# Altium footprint library pedals-enclosures.PCBLIB: 23 footprints (part 2 of 2)
Each footprint in its own frame and in the unit in brackets; x right, y up, seen from the top. Pads: shape width x height; smd on the part's side, far side on the other; paste and mask are expansions set on the pad; w line width, h text height; cw(c..) or ccw(c..) is an arc to the next point about the centre after c.
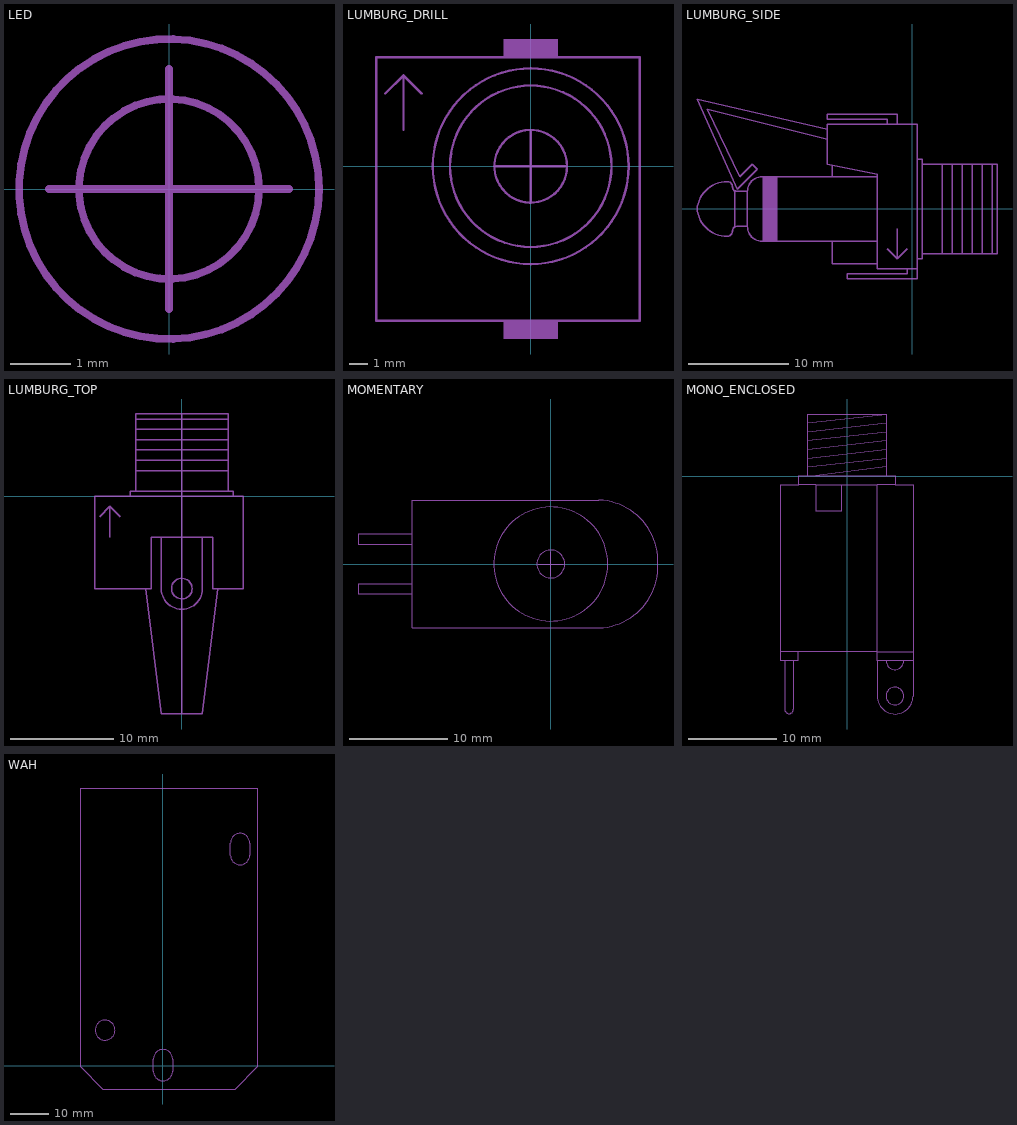
[diagram p1: the footprints below, top view; thin cyan lines are the x and y axes]

## LED [mm]
Mechanical 2:
  circle w0.127: c0,0 r1.5
  circle w0.127: c0,0 r2.5
  lines w0.127: -2,0 2,0 ; 0,-2 0,2

## LUMBURG_DRILL [mm]
Mechanical 2:
  circle w0.127: c0,0 r4.44
  circle w0.127: c0,0 r2
  circle w0.127: c0,0 r5.385
  rectangle: -1.5,6 1.5,7
  rectangle: -1.5,-9.5 1.5,-8.5
  lines w0.127: -8,4 -7,5 ; -7,2 -7,5 ; -6,4 -7,5 ; -2,0 2,0 ; 0,-2 0,2 ; -8.5,-8.5 6,-8.5 6,6 -8.5,6 -8.5,-8.5
Mechanical 3:
  circle w0.127: c0,0 r4.44
  circle w0.127: c0,0 r2
  circle w0.127: c0,0 r5.385
  rectangle: -1.5,6 1.5,7
  rectangle: -1.5,-9.5 1.5,-8.5
  lines w0.127: -8,4 -7,5 ; -7,2 -7,5 ; -6,4 -7,5 ; -2,0 2,0 ; 0,-2 0,2 ; -8.5,-8.5 6,-8.5 6,6 -8.5,6 -8.5,-8.5

## LUMBURG_SIDE [mm]
Mechanical 2:
  rectangle: -15,-3.25 -13.5,3.25
  lines w0.127: -17.75,-1.75 -17.75,1.75 ; -2.5,-4 -1.5,-5 ; -1.5,-2 -1.5,-5 ; -1.5,8.5 -1.5,9.5 -8.5,9.5 -8.5,9 -2.5,9 -2.5,8.5 ; -0.5,-4 -1.5,-5 ; -16.5,-1.75 ccw(c-15,-1.75) -15,-3.25 -8,-3.25 ; -16.5,-1.75 -17.5,-1.75 ccw(c-17.5,-2.25) -18,-2.25 cw(c-18.5,-2.25) -18.5,-2.75 cw(c-18.5,0.3) -21.5,-0.25 cw(c-20.137,0) -21.5,0.25 cw(c-18.5,-0.3) -18.5,2.75 cw(c-18.5,2.25) -18,2.25 ccw(c-17.5,2.25) -17.5,1.75 -16.5,1.75 ; -16.5,-1.75 -16.5,1.75 ; -16.5,1.75 cw(c-15,1.75) -15,3.25 -8,3.25 ; -8.5,7 -8.5,4.5 -8,4.4 ; -8.5,7 -8.5,8 ; -8.5,7 -20.5,10 -17.25,3.25 -16,4.5 -15.5,4 -17.5,2 -21.5,11 -8.5,8 ; -8.5,8 -8.5,8.5 -2.5,8.5 ; -8,-3.25 -3.5,-3.25 ; -8,-3.25 -8,-5.5 -3.5,-5.5 ; -8,3.25 -3.5,3.25 ; -8,3.25 -8,4.4 ; -8,4.4 -3.5,3.5 -3.5,3.25 ; -3.5,-5.5 -3.5,-6 -0.5,-6 ; -3.5,-5.5 -3.5,-3.25 ; -3.5,-3.25 -3.5,3.25 ; -2.5,8.5 0.5,8.5 0.5,5 ; -0.5,-6 0.5,-6 ; -0.5,-6 -0.5,-6.5 -6.5,-6.5 -6.5,-7 0.5,-7 0.5,-6 ; 0.5,-6 0.5,-5 ; 0.5,-5 0.5,5 ; 0.5,-5 1,-5 1,-4.5 ; 0.5,5 1,5 1,4.5 ; 1,-4.5 1,4.5 ; 1,-4.5 3,-4.5 ; 1,4.5 3,4.5 ; 3,-4.5 4,-4.5 ; 3,-4.5 3,4.5 ; 3,4.5 4,4.5 ; 4,-4.5 5,-4.5 ; 4,-4.5 4,4.5 ; 4,4.5 5,4.5 ; 5,-4.5 6,-4.5 ; 5,-4.5 5,4.5 ; 5,4.5 6,4.5 ; 6,-4.5 7,-4.5 ; 6,-4.5 6,4.5 ; 6,4.5 7,4.5 ; 7,-4.5 8,-4.5 ; 7,-4.5 7,4.5 ; 7,4.5 8,4.5 ; 8,-4.5 8.5,-4.5 8.5,4.5 8,4.5 ; 8,-4.5 8,4.5
Mechanical 3:
  rectangle: -15,-3.25 -13.5,3.25
  lines w0.127: -17.75,-1.75 -17.75,1.75 ; -2.5,-4 -1.5,-5 ; -1.5,-2 -1.5,-5 ; -1.5,8.5 -1.5,9.5 -8.5,9.5 -8.5,9 -2.5,9 -2.5,8.5 ; -0.5,-4 -1.5,-5 ; -16.5,-1.75 ccw(c-15,-1.75) -15,-3.25 -8,-3.25 ; -16.5,-1.75 -17.5,-1.75 ccw(c-17.5,-2.25) -18,-2.25 cw(c-18.5,-2.25) -18.5,-2.75 cw(c-18.5,0.3) -21.5,-0.25 cw(c-20.137,0) -21.5,0.25 cw(c-18.5,-0.3) -18.5,2.75 cw(c-18.5,2.25) -18,2.25 ccw(c-17.5,2.25) -17.5,1.75 -16.5,1.75 ; -16.5,-1.75 -16.5,1.75 ; -16.5,1.75 cw(c-15,1.75) -15,3.25 -8,3.25 ; -8.5,7 -8.5,4.5 -8,4.4 ; -8.5,7 -8.5,8 ; -8.5,7 -20.5,10 -17.25,3.25 -16,4.5 -15.5,4 -17.5,2 -21.5,11 -8.5,8 ; -8.5,8 -8.5,8.5 -2.5,8.5 ; -8,-3.25 -3.5,-3.25 ; -8,-3.25 -8,-5.5 -3.5,-5.5 ; -8,3.25 -3.5,3.25 ; -8,3.25 -8,4.4 ; -8,4.4 -3.5,3.5 -3.5,3.25 ; -3.5,-5.5 -3.5,-6 -0.5,-6 ; -3.5,-5.5 -3.5,-3.25 ; -3.5,-3.25 -3.5,3.25 ; -2.5,8.5 0.5,8.5 0.5,5 ; -0.5,-6 0.5,-6 ; -0.5,-6 -0.5,-6.5 -6.5,-6.5 -6.5,-7 0.5,-7 0.5,-6 ; 0.5,-6 0.5,-5 ; 0.5,-5 0.5,5 ; 0.5,-5 1,-5 1,-4.5 ; 0.5,5 1,5 1,4.5 ; 1,-4.5 1,4.5 ; 1,-4.5 3,-4.5 ; 1,4.5 3,4.5 ; 3,-4.5 4,-4.5 ; 3,-4.5 3,4.5 ; 3,4.5 4,4.5 ; 4,-4.5 5,-4.5 ; 4,-4.5 4,4.5 ; 4,4.5 5,4.5 ; 5,-4.5 6,-4.5 ; 5,-4.5 5,4.5 ; 5,4.5 6,4.5 ; 6,-4.5 7,-4.5 ; 6,-4.5 6,4.5 ; 6,4.5 7,4.5 ; 7,-4.5 8,-4.5 ; 7,-4.5 7,4.5 ; 7,4.5 8,4.5 ; 8,-4.5 8.5,-4.5 8.5,4.5 8,4.5 ; 8,-4.5 8,4.5

## LUMBURG_TOP [mm]
Mechanical 2:
  circle w0.127: c0,-9 r1
  lines w0.127: -8,-2 -7,-1 ; -7,-4 -7,-1 ; -6,-2 -7,-1 ; -5,0 5,0 ; -5,0 -8.5,0 -8.5,-9 -3.5,-9 ; -5,0 -5,0.5 -4.5,0.5 ; -4.5,0.5 4.5,0.5 ; -4.5,0.5 -4.5,2.5 ; -4.5,2.5 -4.5,3.5 ; -4.5,2.5 4.5,2.5 ; -4.5,3.5 -4.5,4.5 ; -4.5,3.5 4.5,3.5 ; -4.5,4.5 -4.5,5.5 ; -4.5,4.5 4.5,4.5 ; -4.5,5.5 -4.5,6.5 ; -4.5,5.5 4.5,5.5 ; -4.5,6.5 -4.5,7.5 ; -4.5,6.5 4.5,6.5 ; -4.5,7.5 -4.5,8 0,8 ; -4.5,7.5 4.5,7.5 ; -3.5,-9 -3,-9 -3,-4 -2,-4 ; -3.5,-9 -2,-21.2 0,-21.2 ; -2,-4 2,-4 ; -2,-4 -2,-9 ccw(c0,-9) 2,-9 2,-4 ; 0,-21.2 0,8 ; 0,-21.2 2,-21.2 3.5,-9 ; 0,8 4.5,8 4.5,7.5 ; 2,-4 3,-4 3,-9 3.5,-9 ; 3.5,-9 6,-9 6,0 5,0 ; 4.5,0.5 5,0.5 5,0 ; 4.5,0.5 4.5,2.5 ; 4.5,2.5 4.5,3.5 ; 4.5,3.5 4.5,4.5 ; 4.5,4.5 4.5,5.5 ; 4.5,5.5 4.5,6.5 ; 4.5,6.5 4.5,7.5

## MOMENTARY [mm]
Mechanical 3:
  circle w0.127: c0,0 r5.8
  circle w0.127: c0,0 r1.42
  lines w0.127: -1.27,0 1.27,0 ; 0,-1.27 0,1.27 ; -14.1,-3 -14.1,-6.5 4.9,-6.5 ccw(c4.65,-0.25) 10.9,0 ccw(c4.65,0.25) 4.9,6.5 -14.1,6.5 -14.1,3 ; -14.1,-3 -19.6,-3 -19.6,-2 -14.1,-2 ; -14.1,-3 -14.1,-2 ; -14.1,-2 -14.1,2 ; -14.1,2 -14.1,3 ; -14.1,2 -19.6,2 -19.6,3 -14.1,3

## MONO_ENCLOSED [mm]
Mechanical 2:
  circle w0.127: c5.43,-24.955 r1
  lines w0.127: -7.5,-19.955 -7.5,-20.955 -7.07,-20.955 ; -7.5,-19.955 -7.5,-0.955 -5.5,-0.955 ; -7.5,-19.955 -5.57,-19.955 ; -7.07,-20.955 -6.07,-20.955 ; -7.07,-20.955 -7.07,-26.455 ccw(c-6.57,-26.455) -6.07,-26.455 -6.07,-20.955 ; -6.07,-20.955 -5.57,-20.955 -5.57,-19.955 ; -5.57,-19.955 3.43,-19.955 ; -5.5,-0.955 -5.5,0.045 -4.45,0.045 ; -5.5,-0.955 -3.57,-0.955 ; -4.45,0.045 -4.45,1.045 ; -4.45,0.045 -3.57,0.045 ; -4.45,1.045 -4.45,2.045 ; -4.45,1.045 4.45,2.045 ; -4.45,2.045 -4.45,3.045 ; -4.45,2.045 4.45,3.045 ; -4.45,3.045 -4.45,4.045 ; -4.45,3.045 4.45,4.045 ; -4.45,4.045 -4.45,5.045 ; -4.45,4.045 4.45,5.045 ; -4.45,5.045 -4.45,6.045 ; -4.45,5.045 4.45,6.045 ; -4.45,6.045 -4.45,7.045 4.45,7.045 ; -4.45,6.045 4.45,7.045 ; -3.57,-0.955 -0.57,-0.955 ; -3.57,-0.955 -3.57,-3.955 -0.57,-3.955 -0.57,-0.955 ; -3.57,0.045 4.45,0.045 ; -3.57,0.045 4.45,1.045 ; -0.57,-0.955 3.43,-0.955 ; 3.43,-20.955 4.43,-20.955 ; 3.43,-20.955 3.43,-19.955 ; 3.43,-20.955 3.43,-24.955 ccw(c5.465,-24.955) 7.5,-24.955 7.5,-20.955 ; 3.43,-19.955 3.43,-0.955 ; 3.43,-19.955 7.5,-19.955 ; 3.43,-0.955 5.5,-0.955 ; 4.43,-20.955 6.43,-20.955 ; 4.43,-20.955 ccw(c5.43,-20.955) 6.43,-20.955 ; 4.45,0.045 4.45,1.045 ; 4.45,0.045 5.5,0.045 5.5,-0.955 ; 4.45,1.045 4.45,2.045 ; 4.45,2.045 4.45,3.045 ; 4.45,3.045 4.45,4.045 ; 4.45,4.045 4.45,5.045 ; 4.45,5.045 4.45,6.045 ; 4.45,6.045 4.45,7.045 ; 5.5,-0.955 7.5,-0.955 7.5,-19.955 ; 6.43,-20.955 7.5,-20.955 ; 7.5,-20.955 7.5,-19.955

## WAH [mm]
Mechanical 2:
  circle w0.127: c-15.24,9.398 r2.618
  lines w0.127: -21.844,-0.127 -21.844,0 -21.844,72.898 25.019,72.898 25.019,-0.127 19.05,-6.096 -15.875,-6.096 -21.844,-0.127 ; -2.54,-1.397 -2.54,1.778 cw(c0,1.778) 0,4.318 cw(c0,1.778) 2.54,1.778 2.54,-1.397 cw(c0,-1.397) 0,-3.937 cw(c0,-1.397) -2.54,-1.397 ; 17.78,55.499 17.78,58.674 cw(c20.32,58.674) 20.32,61.214 cw(c20.32,58.674) 22.86,58.674 22.86,55.499 cw(c20.32,55.499) 20.32,52.959 cw(c20.32,55.499) 17.78,55.499